# Altium footprint library custom-case.PcbLib: 168 footprints (part 6 of 11)
Each footprint in its own frame and in the unit in brackets; x right, y up, seen from the top. Pads: shape width x height; smd on the part's side, far side on the other; paste and mask are expansions set on the pad; w line width, h text height; cw(c..) or ccw(c..) is an arc to the next point about the centre after c.
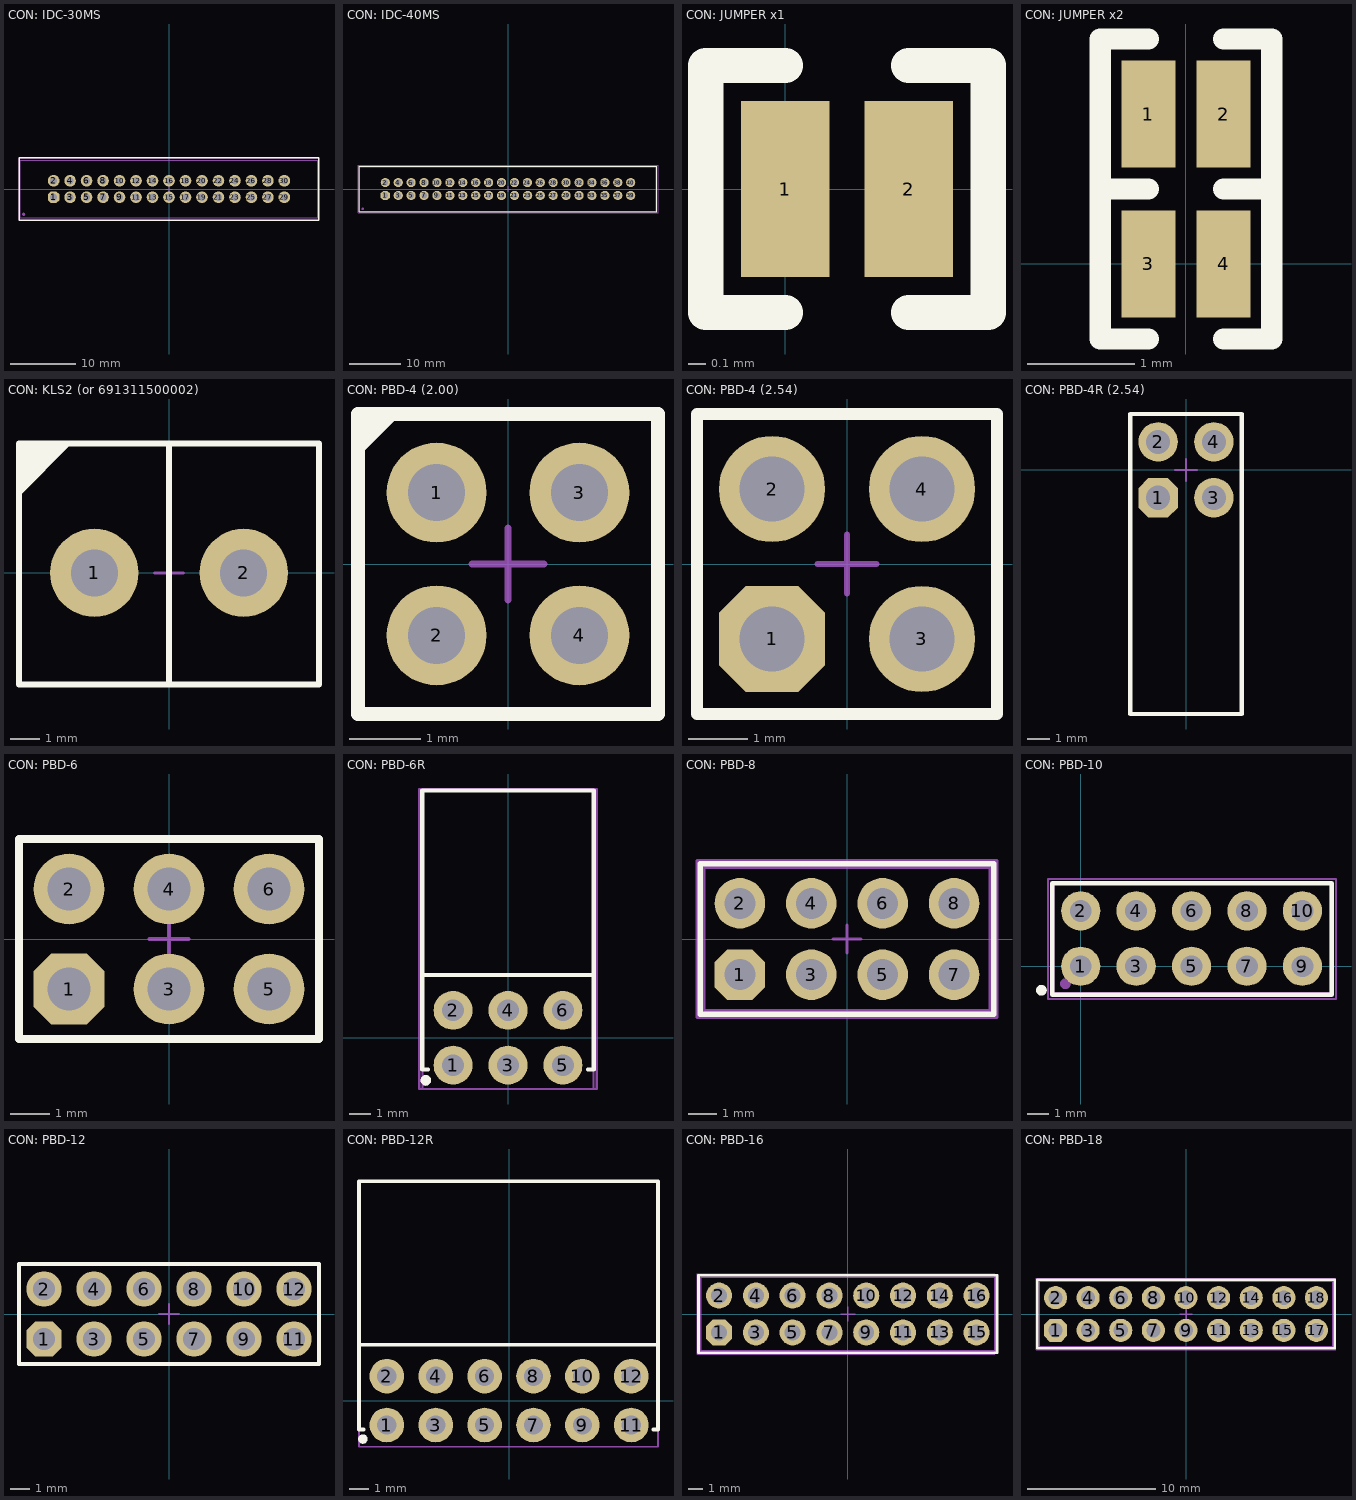
[diagram p5: the footprints below, top view; thin cyan lines are the x and y axes]

## CON: IDC-30MS [mm]
height 10
pads (31):
  oct 1.8x1.8 hole 1.1: 1(-17.78,-1.27)
  round 1.8 hole 1.1: 2(-17.78,1.27) 3(-15.24,-1.27) 4(-15.24,1.27) 5(-12.7,-1.27) 6(-12.7,1.27) 7(-10.16,-1.27) 8(-10.16,1.27) 9(-7.62,-1.27) 10(-7.62,1.27) 11(-5.08,-1.27) 12(-5.08,1.27) 13(-2.54,-1.27) 14(-2.54,1.27) 15(0,-1.27) 16(0,1.27) 17(2.54,-1.27) 18(2.54,1.27) 19(5.08,-1.27) 20(5.08,1.27) 21(7.62,-1.27) 22(7.62,1.27) 23(10.16,-1.27) 24(10.16,1.27) 25(12.7,-1.27) 26(12.7,1.27) 27(15.24,-1.27) 28(15.24,1.27) 29(17.78,-1.27) 30(17.78,1.27)
  round 0.5 on Mech1: 42(-22.4,-3.9)
Top Overlay:
  lines w0.2: -23.114,-4.826 23.114,-4.826 23.114,4.826 -23.114,4.826 -23.114,-4.826
Top Assy:
  lines w0.1: -22.9,-4.4 -22.9,4.4 22.9,4.4 22.9,-4.4 -22.9,-4.4
Size Area:
  lines w0.1: -0.5,0 0.5,0 ; 0,-0.5 0,0.5 ; -23.114,-4.826 23.114,-4.826 23.114,4.826 -23.114,4.826 -23.114,-4.826
3D body "IDC-30MS.STEP": height 8.78, standoff -3, extent -22.881,-4.392 22.869,4.408

## CON: IDC-40MS [mm]
height 10
pads (41):
  oct 1.8x1.8 hole 1.1: 1(-24.13,-1.27)
  round 1.8 hole 1.1: 2(-24.13,1.27) 3(-21.59,-1.27) 4(-21.59,1.27) 5(-19.05,-1.27) 6(-19.05,1.27) 7(-16.51,-1.27) 8(-16.51,1.27) 9(-13.97,-1.27) 10(-13.97,1.27) 11(-11.43,-1.27) 12(-11.43,1.27) 13(-8.89,-1.27) 14(-8.89,1.27) 15(-6.35,-1.27) 16(-6.35,1.27) 17(-3.81,-1.27) 18(-3.81,1.27) 19(-1.27,-1.27) 20(-1.27,1.27) 21(1.27,-1.27) 22(1.27,1.27) 23(3.87,-1.27) 24(3.81,1.27) 25(6.35,-1.27) 26(6.35,1.27) 27(8.89,-1.27) 28(8.89,1.27) 29(11.43,-1.27) 30(11.43,1.27) 31(13.97,-1.27) 32(13.97,1.27) 33(16.51,-1.27) 34(16.51,1.27) 35(19.05,-1.27) 36(19.05,1.27) 37(21.59,-1.27) 38(21.59,1.27) 39(24.13,-1.27) 40(24.13,1.27)
  round 0.5 on Mech1: 43(-28.6,-3.9)
Top Overlay:
  lines w0.2: -29.3,-4.5 -29.3,4.5 29.3,4.5 29.3,-4.5 -29.3,-4.5
Top Assy:
  lines w0.1: -29.2,-4.4 29.2,-4.4 29.2,4.4 -29.2,4.4 -29.2,-4.4
Size Area:
  lines w0.1: -0.5,0 0.5,0 ; 0,-0.5 0,0.5 ; -29.5,-4.7 -29.5,4.7 29.5,4.7 29.5,-4.7 -29.5,-4.7
3D body "IDC-40MS.STEP": height 8.78, standoff -3, extent -29.225,-4.4 29.225,4.4

## CON: JUMPER x1 [mm]
pads (2):
  rect 0.5x1 smd: 1(0,0) 2(0.7,0)
Top Overlay:
  lines w0.2: 0,-0.7 -0.45,-0.7 -0.45,0.7 0,0.7 ; 0.7,-0.7 1.15,-0.7 1.15,0.7 0.7,0.7

## CON: JUMPER x2 [mm]
pads (4):
  rect 0.5x1 smd: 1(-0.35,1.4) 2(0.35,1.4) 3(-0.35,0) 4(0.35,0)
Top Overlay:
  lines w0.2: -0.35,-0.7 -0.8,-0.7 -0.8,0.7 ; -0.35,2.1 -0.8,2.1 -0.8,0.7 ; 0.35,-0.7 0.8,-0.7 0.8,0.7 ; 0.35,2.1 0.8,2.1 0.8,0.7 ; -0.8,0.7 -0.35,0.7 -0.8,0.7 ; 0.8,0.7 0.35,0.7 0.8,0.7

## CON: KLS2 (or 691311500002) [mm]
pads (2):
  round 3 hole 1.6 mask+0.075: 1(-2.54,0) 2(2.54,0)
Top Overlay:
  region: -5.1,2.6 -3.3,4.4 -5.1,4.4
  lines w0.2: 0,-3.8 0,4.4 ; -5.1,-3.8 -5.1,4.4 5.1,4.4 5.1,-3.8 -5.1,-3.8
Top Assy:
  lines w0.1: -5.1,-3.8 -5.1,4.4 5.1,4.4 5.1,-3.8 -5.1,-3.8
Size Area:
  lines w0.1: -0.5,0 0.5,0 ; 0,-0.5 0,0.5 ; -5.1,-3.8 -5.1,4.4 5.1,4.4 5.1,-3.8 -5.1,-3.8
3D body "691311500002 (rev1).stp": height 12.1, standoff -3.9, extent -5.1,-3.8 5.06,4.7

## CON: PBD-4 (2.00) [mm] "PBD-4"
height 10
pads (4):
  round 1.4 hole 0.8: 1(-1,1) 2(-1,-1) 3(1,1) 4(1,-1)
Top Overlay:
  region: -2.1,1.5 -1.5,2.1 -2.1,2.1
  lines w0.2: -2.1,-2.1 2.1,-2.1 2.1,2.1 -2.1,2.1 -2.1,-2.1
Top Assy:
  lines w0.1: -2.1,-2.1 2.1,-2.1 2.1,2.1 -2.1,2.1 -2.1,-2.1
Size Area:
  lines w0.1: -0.5,0 0.5,0 ; 0,-0.5 0,0.5 ; -2.1,-2.1 2.1,-2.1 2.1,2.1 -2.1,2.1 -2.1,-2.1
3D body "791077001-1.STEP": height 4.22, standoff -3.22, extent -2.095,-2.095 2.095,2.095

## CON: PBD-4 (2.54) [mm] "PBD-4"
height 10
pads (4):
  oct 1.8x1.8 hole 1.1: 1(-1.27,-1.27)
  round 1.8 hole 1.1: 2(-1.27,1.27) 3(1.27,-1.27) 4(1.27,1.27)
Top Overlay:
  lines w0.2: -2.54,-2.54 -2.54,2.54 2.54,2.54 2.54,-2.54 -2.54,-2.54
Top Assy:
  lines w0.1: -2.54,-2.54 -2.54,2.54 2.54,2.54 2.54,-2.54 -2.54,-2.54
Size Area:
  lines w0.1: -0.5,0 0.5,0 ; 0,-0.5 0,0.5 ; -2.54,-2.54 -2.54,2.54 2.54,2.54 2.54,-2.54 -2.54,-2.54
3D body "User Library-PBD-4R.STEP": height 8.53, standoff -0.57, extent -2.54,-2.54 2.54,2.54

## CON: PBD-4R (2.54) [mm] "PBD-4"
height 10
pads (4):
  oct 1.8x1.8 hole 1.1: 1(-1.27,-1.27)
  round 1.8 hole 1.1: 2(-1.27,1.27) 3(1.27,-1.27) 4(1.27,1.27)
Top Overlay:
  lines w0.2: -2.54,-11.1 2.54,-11.1 2.54,2.54 -2.54,2.54 -2.54,-11.1
Top Assy:
  lines w0.1: -2.54,-11.1 2.54,-11.1 2.54,2.54 -2.54,2.54 -2.54,-11.1
Size Area:
  lines w0.1: -0.5,0 0.5,0 ; 0,-0.5 0,0.5 ; -2.54,-11.1 2.54,-11.1 2.54,2.54 -2.54,2.54 -2.54,-11.1
3D body "User Library-PBD-4R.STEP": height 5.08, standoff -3.5, extent -2.54,-11.102 2.54,1.502

## CON: PBD-6 [mm] "PBD-6"
height 10
pads (6):
  oct 1.8x1.8 hole 1.1: 1(-2.54,-1.27)
  round 1.8 hole 1.1: 2(-2.54,1.27) 3(0,-1.27) 4(0,1.27) 5(2.54,-1.27) 6(2.54,1.27)
Top Overlay:
  lines w0.2: -3.81,-2.54 3.81,-2.54 3.81,2.54 -3.81,2.54 -3.81,-2.54
Top Assy:
  lines w0.1: -3.81,-2.54 3.81,-2.54 3.81,2.54 -3.81,2.54 -3.81,-2.54
Size Area:
  lines w0.1: -0.5,0 0.5,0 ; 0,-0.5 0,0.5 ; -3.81,-2.54 -3.81,2.54 3.81,2.54 3.81,-2.54 -3.81,-2.54
3D body "PBD-6.STEP": height 8.5, standoff -3, extent -3.81,-2.54 3.81,2.54

## CON: PBD-6R [mm]
pads (8):
  round 1.8 hole 1: 1(-2.54,-1.27) 2(-2.54,1.27) 3(0,-1.27) 4(0,1.27) 5(2.54,-1.27) 6(2.54,1.27)
  round 0.5 on Mech1: ""(-3.8,-1.97)
  round 0.5 on Top Overlay: ""(-3.8,-1.97)
Top Overlay:
  lines w0.2: -3.96,2.9 3.96,2.9 ; -3.7,-1.47 -3.96,-1.47 -3.96,11.43 3.96,11.43 3.96,-1.47 3.7,-1.47
Top Assy:
  lines w0.1: -3.96,-2.37 -3.96,11.43 3.96,11.43 3.96,-2.37 -3.96,-2.37
Size Area:
  lines w0.1: -4.1,-2.37 -4.1,11.5 4.1,11.5 4.1,-2.37 -4.1,-2.37
3D body "PLD-2x3.STEP": height 5.02, standoff -3.48, extent -3.96,-1.47 3.96,11.43

## CON: PBD-8 [mm] "PBD-8"
height 10
pads (8):
  oct 1.8x1.8 hole 1.1: 1(-3.81,-1.27)
  round 1.8 hole 1.1: 2(-3.81,1.27) 3(-1.27,-1.27) 4(-1.27,1.27) 5(1.27,-1.27) 6(1.27,1.27) 7(3.81,-1.27) 8(3.81,1.27)
Top Overlay:
  lines w0.2: -5.225,-2.675 -5.225,2.675 5.225,2.675 5.225,-2.675 -5.225,-2.675
Top Assy:
  lines w0.1: -5.08,-2.54 -5.08,2.54 5.08,2.54 5.08,-2.54 -5.08,-2.54
Size Area:
  lines w0.1: -0.5,0 0.5,0 ; 0,-0.5 0,0.5 ; -5.334,-2.794 5.334,-2.794 5.334,2.794 -5.334,2.794 -5.334,-2.794
3D body "PBD-8.STEP": height 8.5, standoff -3, extent -5.08,-2.54 5.08,2.54

## CON: PBD-10 [mm]
pads (12):
  round 1.8 hole 1: 1(0,0) 2(0,2.54) 3(2.54,0) 4(2.54,2.54) 5(5.08,0) 6(5.08,2.54) 7(7.62,0) 8(7.62,2.54) 9(10.16,0) 10(10.16,2.54)
  round 0.5 on Top Overlay: ""(-1.8,-1.1)
  round 0.5 on Mech1: ""(-0.7,-0.8)
Top Overlay:
  lines w0.2: -1.3,-1.3 11.5,-1.3 11.5,3.8 -1.3,3.8 -1.3,-1.3
Top Assy:
  lines w0.1: -1.25,-1.24 -1.25,3.84 11.45,3.84 11.45,-1.24 -1.25,-1.24
Size Area:
  lines w0.1: -1.5,-1.5 11.7,-1.5 11.7,4 -1.5,4 -1.5,-1.5
3D body "User Library-PBD2_54-10.STEP": height 8.4, standoff -2.7, extent -1.25,-1.24 11.45,3.84

## CON: PBD-12 [mm] "PBD-12"
height 10
pads (12):
  oct 1.8x1.8 hole 1.1: 1(-6.35,-1.27)
  round 1.8 hole 1.1: 2(-6.35,1.27) 3(-3.81,-1.27) 4(-3.81,1.27) 5(-1.27,-1.27) 6(-1.27,1.27) 7(1.27,-1.27) 8(1.27,1.27) 9(3.81,-1.27) 10(3.81,1.27) 11(6.35,-1.27) 12(6.35,1.27)
Top Overlay:
  lines w0.2: -7.62,-2.54 -7.62,2.54 7.62,2.54 7.62,-2.54 -7.62,-2.54
Top Assy:
  lines w0.1: -7.62,-2.54 -7.62,2.54 7.62,2.54 7.62,-2.54 -7.62,-2.54
Size Area:
  lines w0.1: -0.5,0 0.5,0 ; 0,-0.5 0,0.5 ; -7.62,-2.54 7.62,-2.54 7.62,2.54 -7.62,2.54 -7.62,-2.54
3D body "PBD-6.STEP": height 8.5, standoff -3, extent -0.01,-2.54 7.61,2.54
3D body "PBD-6.STEP": height 8.5, standoff -3, extent -7.61,-2.54 0.01,2.54

## CON: PBD-12R [mm]
pads (13):
  round 1.8 hole 1: 1(-6.35,-1.27) 2(-6.35,1.27) 3(-3.81,-1.27) 4(-3.81,1.27) 5(-1.27,-1.27) 6(-1.27,1.27) 7(1.27,-1.27) 8(1.27,1.27) 9(3.81,-1.27) 10(3.81,1.27) 11(6.35,-1.27) 12(6.35,1.27)
  round 0.5 on Top Overlay: ""(-7.6,-2)
Top Overlay:
  lines w0.2: -7.8,2.9 7.74,2.9 ; -7.56,-1.5 -7.8,-1.5 -7.8,11.4 7.74,11.4 7.74,-1.5 7.5,-1.5
Top Assy:
  lines w0.1: -7.8,-2.4 7.74,-2.4 7.74,11.4 -7.8,11.4 -7.8,-2.4
Size Area:
  lines w0.1: -7.8,-2.4 7.74,-2.4 7.74,11.4 -7.8,11.4 -7.8,-2.4
3D body "PLD-2x6R.STEP": height 5.02, standoff -3.48, extent -7.8,-1.5 7.74,11.4

## CON: PBD-16 [mm] "PBD-16"
height 10
pads (16):
  oct 1.8x1.8 hole 1.1: 1(-8.89,-1.27)
  round 1.8 hole 1.1: 2(-8.89,1.27) 3(-6.35,-1.27) 4(-6.35,1.27) 5(-3.81,-1.27) 6(-3.81,1.27) 7(-1.27,-1.27) 8(-1.27,1.27) 9(1.27,-1.27) 10(1.27,1.27) 11(3.81,-1.27) 12(3.81,1.27) 13(6.35,-1.27) 14(6.35,1.27) 15(8.89,-1.27) 16(8.89,1.27)
Top Overlay:
  lines w0.2: -10.3,-2.675 10.3,-2.675 10.3,2.675 -10.3,2.675 -10.3,-2.675
Top Assy:
  lines w0.1: -10.16,-2.54 10.15,-2.54 10.15,2.54 -10.16,2.54 -10.16,-2.54
Size Area:
  lines w0.05: -10.414,-2.794 -10.414,2.794 10.15,2.794 10.15,-2.794 -10.414,-2.794
  lines w0.1: -0.5,0 0.5,0 ; 0,-0.5 0,0.5
3D body "PBD-16.STEP": height 8.5, standoff -3, extent -10.16,-2.54 10.16,2.54

## CON: PBD-18 [mm] "PBD-18"
height 10
pads (18):
  oct 1.8x1.8 hole 1.1: 1(-10.16,-1.27)
  round 1.8 hole 1.1: 2(-10.16,1.27) 3(-7.62,-1.27) 4(-7.62,1.27) 5(-5.08,-1.27) 6(-5.08,1.27) 7(-2.54,-1.27) 8(-2.54,1.27) 9(0,-1.27) 10(0,1.27) 11(2.54,-1.27) 12(2.54,1.27) 13(5.08,-1.27) 14(5.08,1.27) 15(7.62,-1.27) 16(7.62,1.27) 17(10.16,-1.27) 18(10.16,1.27)
Top Overlay:
  lines w0.2: -11.575,-2.675 11.575,-2.675 11.575,2.675 -11.575,2.675 -11.575,-2.675
Top Assy:
  lines w0.1: -11.43,-2.54 11.43,-2.54 11.43,2.54 -11.43,2.54 -11.43,-2.54
Size Area:
  lines w0.05: -11.684,-2.794 -11.684,2.794 11.684,2.794 11.684,-2.794 -11.684,-2.794
  lines w0.1: -0.5,0 0.5,0 ; 0,-0.5 0,0.5
3D body "PBD-18.STEP": height 8.5, standoff -3, extent -11.43,-2.54 11.43,2.54